# EAGLE library part LINE_10 (library Pod3 Lib)
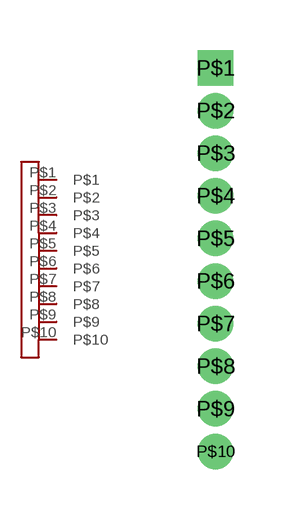
[diagram p4: symbol with the pads of LINE_10; footprint LINE_10]

Designator prefix -

## LINE_10  [LINE_10]
P$1  P$1
P$2  P$2
P$3  P$3
P$4  P$4
P$5  P$5
P$6  P$6
P$7  P$7
P$8  P$8
P$9  P$9
P$10  P$10

## Footprint LINE_10 (pad centres in mm)
drill 0.55 square: P$1 0,5.715
drill 0.55: P$2 0,4.445; P$3 0,3.175; P$4 0,1.905; P$5 0,0.635; P$6 0,-0.635; P$7 0,-1.905; P$8 0,-3.175; P$9 0,-4.445; P$10 0,-5.715